# Altium schematic symbol library ePlomb_Main_SCH_Lib.SchLib: 27 symbols
Pins are listed as number, name and electrical type; pins without a type are passive.

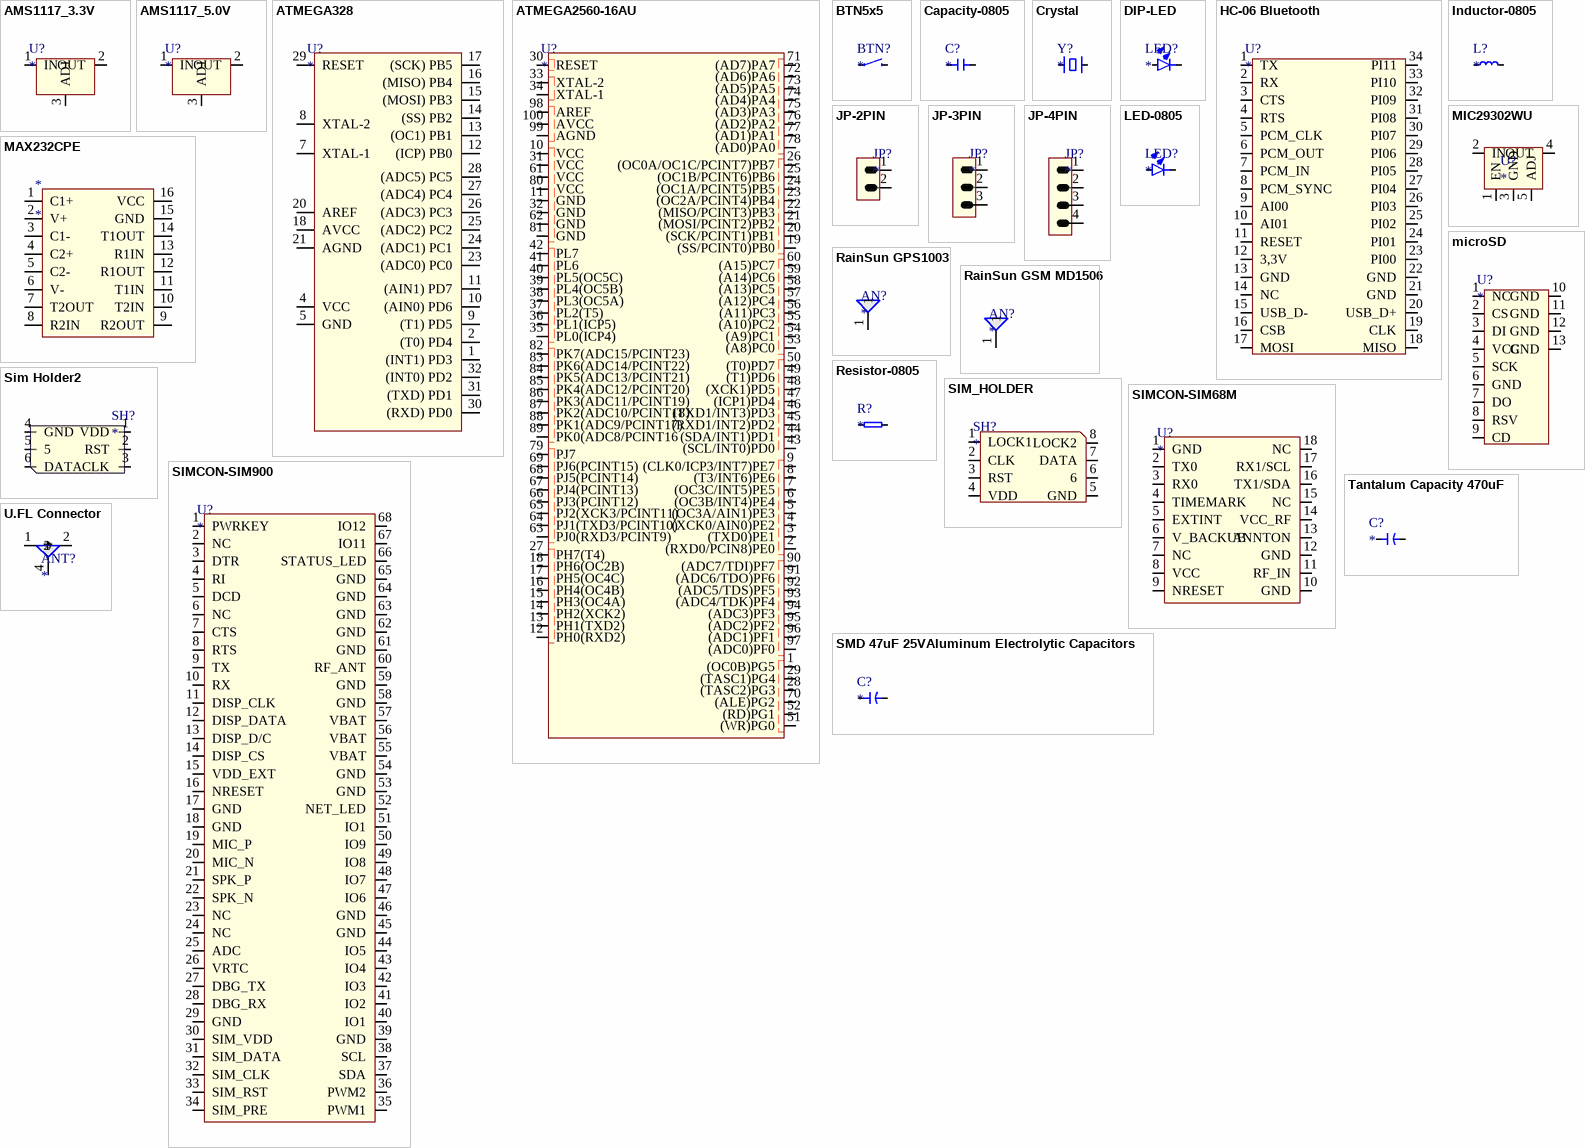
[diagram p0: symbols AMS1117_3.3V to U.FL Connector]

## AMS1117_3.3V
designator U?
footprint AMS1117_3.3V (SOT223, 4-Leads, Body 6,50x7,00mm (avg), Pitch 2,29mm, IPC Medium Density)
pins: 1 IN, 2 OUT, 3 ADJ

## AMS1117_5.0V
designator U?
footprint AMS1117_5.0V (SOT223, 4-Leads, Body 6,50x7,00mm (avg), Pitch 2,29mm, IPC Medium Density)
pins: 1 IN, 2 OUT, 3 ADJ

## ATMEGA328
designator U?
ATMEGA328
footprint Atmel MEGA328P-AU
pins: 1 (INT1) PD3, 2 (T0) PD4, 4 VCC, 5 GND, 7 XTAL-1, 8 XTAL-2, 9 (T1) PD5, 10 (AIN0) PD6, 11 (AIN1) PD7, 12 (ICP) PB0, 13 (OC1) PB1, 14 (SS) PB2, 15 (MOSI) PB3, 16 (MISO) PB4, 17 (SCK) PB5, 18 AVCC, 20 AREF, 21 AGND, 23 (ADC0) PC0, 24 (ADC1) PC1, 25 (ADC2) PC2, 26 (ADC3) PC3, 27 (ADC4) PC4, 28 (ADC5) PC5, 29 RESET, 30 (RXD) PD0, 31 (TXD) PD1, 32 (INT0) PD2

## ATMEGA2560-16AU
designator U?
footprint ATMEGA2560-16AU (TSQFP, 100-Leads, Body 14,00x14,00mm, Pitch 0,50mm, IPC Medium Density)
pins: 1 (OC0B)PG5, 2 (RXD0/PCIN8)PE0, 3 (TXD0)PE1, 4 (XCK0/AIN0)PE2, 5 (OC3A/AIN1)PE3, 6 (OC3B/INT4)PE4, 7 (OC3C/INT5)PE5, 8 (T3/INT6)PE6, 9 (CLK0/ICP3/INT7)PE7, 10 VCC, 11 GND, 12 PH0(RXD2), 13 PH1(TXD2), 14 PH2(XCK2), 15 PH3(OC4A), 16 PH4(OC4B), 17 PH5(OC4C), 18 PH6(OC2B), 19 (SS/PCINT0)PB0, 20 (SCK/PCINT1)PB1, 21 (MOSI/PCINT2)PB2, 22 (MISO/PCINT3)PB3, 23 (OC2A/PCINT4)PB4, 24 (OC1A/PCINT5)PB5, 25 (OC1B/PCINT6)PB6, 26 (OC0A/OC1C/PCINT7)PB7, 27 PH7(T4), 28 (TASC2)PG3, 29 (TASC1)PG4, 30 RESET, 31 VCC, 32 GND, 33 XTAL-2, 34 XTAL-1, 35 PL0(ICP4), 36 PL1(ICP5), 37 PL2(T5), 38 PL3(OC5A), 39 PL4(OC5B), 40 PL5(OC5C), 41 PL6, 42 PL7, 43 (SCL/INT0)PD0, 44 (SDA/INT1)PD1, 45 (RXD1/INT2)PD2, 46 (TXD1/INT3)PD3, 47 (ICP1)PD4, 48 (XCK1)PD5, 49 (T1)PD6, 50 (T0)PD7, 51 (WR)PG0, 52 (RD)PG1, 53 (A8)PC0, 54 (A9)PC1, 55 (A10)PC2, 56 (A11)PC3, 57 (A12)PC4, 58 (A13)PC5, 59 (A14)PC6, 60 (A15)PC7, 61 VCC, 62 GND, 63 PJ0(RXD3/PCINT9), 64 PJ1(TXD3/PCINT10), 65 PJ2(XCK3/PCINT11), 66 PJ3(PCINT12), 67 PJ4(PCINT13), 68 PJ5(PCINT14), 69 PJ6(PCINT15), 70 (ALE)PG2, 71 (AD7)PA7, 72 (AD6)PA6, 73 (AD5)PA5, 74 (AD4)PA4, 75 (AD3)PA3, 76 (AD2)PA2, 77 (AD1)PA1, 78 (AD0)PA0, 79 PJ7, 80 VCC, 81 GND, 82 PK7(ADC15/PCINT23), 83 PK6(ADC14/PCINT22), 84 PK5(ADC13/PCINT21), 85 PK4(ADC12/PCINT20), 86 PK3(ADC11/PCINT19), 87 PK2(ADC10/PCINT18), 88 PK1(ADC9/PCINT17), 89 PK0(ADC8/PCINT16, 90 (ADC7/TDI)PF7, 91 (ADC6/TDO)PF6, 92 (ADC5/TDS)PF5, 93 (ADC4/TDK)PF4, 94 (ADC3)PF3, 95 (ADC2)PF2, 96 (ADC1)PF1, 97 (ADC0)PF0, 98 AREF, 99 AGND, 100 AVCC

## BTN5x5
designator BTN?
footprint Button-5x5
pins: 1, 2

## Capacity-0805
designator C?
footprint C0805 (Chip Capacity, 2-Leads, Body 2,10x1,30mm, IPC Medium Density)
pins: 1, 2

## Crystal
designator Y?
footprint Crystal 16MHz
pins: 1, 2

## DIP-LED
designator LED?
footprint Dip Led
pins: 1, 2

## HC-06 Bluetooth
designator U?
HC-06
footprint HC-06 (Bluetooth)
pins: 1 TX, 2 RX, 3 CTS, 4 RTS, 5 PCM_CLK, 6 PCM_OUT, 7 PCM_IN, 8 PCM_SYNC, 9 AI00, 10 AI01, 11 RESET, 12 3,3V, 13 GND, 14 NC, 15 USB_D-, 16 CSB, 17 MOSI, 18 MISO, 19 CLK, 20 USB_D+, 21 GND, 22 GND, 23 PI00, 24 PI01, 25 PI02, 26 PI03, 27 PI04, 28 PI05, 29 PI06, 30 PI07, 31 PI08, 32 PI09, 33 PI10, 34 PI11

## Inductor-0805
designator L?
footprint L0805 (Chip Inductor, 2-Leads, Body 2,10x1,30mm, IPC Medium Density)
pins: 1, 2

## JP-2PIN
designator JP?
footprint JP-2PIN
pins: 1, 2

## JP-3PIN
designator JP?
footprint JP-3Pin
pins: 1, 2, 3

## JP-4PIN
designator JP?
footprint JP-4PIN
pins: 1, 2, 3, 4

## LED-0805
designator LED?
footprint LED-0805 (Chip Resistor, 2-Leads, Body 2,10x1,30mm, IPC Medium Density)
pins: 1, 2

## MAX232CPE
designator *
pins: 1 C1+, 2 V+, 3 C1-, 4 C2+, 5 C2-, 6 V-, 7 T2OUT, 8 R2IN, 9 R2OUT, 10 T2IN, 11 T1IN, 12 R1OUT, 13 R1IN, 14 T1OUT, 15 GND, 16 VCC

## MIC29302WU
designator U?
footprint MIC29302WU
pins: 1 EN, 2 IN, 3 GND, 4 OUT, 5 ADJ

## microSD
designator U?
footprint microSD
pins: 1 NC, 2 CS, 3 DI, 4 VCC, 5 SCK, 6 GND, 7 DO, 8 RSV, 9 CD, 10 GND, 11 GND, 12 GND, 13 GND

## RainSun GPS1003
designator AN?
footprint RainSun GPS1003 (RainSun GPS1003 Passive Annten)
pins: 1

## RainSun GSM MD1506
designator AN?
footprint RainSun GSM MD1506 (RainSun GSM MD1506 Annten)
pins: 1

## Resistor-0805
designator R?
footprint R0805 (Chip Resistor, 2-Leads, Body 2,10x1,30mm, IPC Medium Density)
pins: 1, 2

## Sim Holder2
designator SH?
footprint Sim Holder2
pins: 1 VDD, 2 RST, 3 CLK, 4 GND, 5, 6 DATA

## SIM_HOLDER
designator SH?
footprint SIM_HOLDER
pins: 1 LOCK1, 2 CLK, 3 RST, 4 VDD, 5 GND, 6, 7 DATA, 8 LOCK2

## SIMCON-SIM68M
designator U?
footprint SIMCON-SIM68M (LCC, 18-Pins, Body 9,70x10,10mmx2,50mm, Pitch 1,10mm, IPC Medium Density)
pins: 1 GND, 2 TX0, 3 RX0, 4 TIMEMARK, 5 EXTINT, 6 V_BACKUB, 7 NC, 8 VCC, 9 NRESET, 10 GND, 11 RF_IN, 12 GND, 13 ANNTON, 14 VCC_RF, 15 NC, 16 TX1/SDA, 17 RX1/SCL, 18 NC

## SIMCON-SIM900
designator U?
footprint SIMCON-900 (LCC, 68-Pins, Body 24,00x24,00mmx3,00mm, Pitch 1,00mm, IPC Medium Density)
pins: 1 PWRKEY, 2 NC, 3 DTR, 4 RI, 5 DCD, 6 NC, 7 CTS, 8 RTS, 9 TX, 10 RX, 11 DISP_CLK, 12 DISP_DATA, 13 DISP_D/C, 14 DISP_CS, 15 VDD_EXT, 16 NRESET, 17 GND, 18 GND, 19 MIC_P, 20 MIC_N, 21 SPK_P, 22 SPK_N, 23 NC, 24 NC, 25 ADC, 26 VRTC, 27 DBG_TX, 28 DBG_RX, 29 GND, 30 SIM_VDD, 31 SIM_DATA, 32 SIM_CLK, 33 SIM_RST, 34 SIM_PRE, 35 PWM1, 36 PWM2, 37 SDA, 38 SCL, 39 GND, 40 IO1, 41 IO2, 42 IO3, 43 IO4, 44 IO5, 45 GND, 46 GND, 47 IO6, 48 IO7, 49 IO8, 50 IO9, 51 IO1, 52 NET_LED, 53 GND, 54 GND, 55 VBAT, 56 VBAT, 57 VBAT, 58 GND, 59 GND, 60 RF_ANT, 61 GND, 62 GND, 63 GND, 64 GND, 65 GND, 66 STATUS_LED, 67 IO11, 68 IO12

## SMD 47uF 25VAluminum Electrolytic Capacitors
designator C?
footprint 47uF 25V Aluminum Electrolytic Capacitors (Aluminum Electrolytic Capacitor, Body 5,30x5,30x6,30mm, IPC Low Density)
pins: 1, 2

## Tantalum Capacity 470uF
designator C?
footprint Tantalum Capacity 7343Case
pins: 1, 2

## U.FL Connector
designator ANT?
footprint U.FL Connector
pins: 1, 2, 4